# Altium integrated library Diodes - TVS.IntLib: 5379 symbols (part 96 of 122)
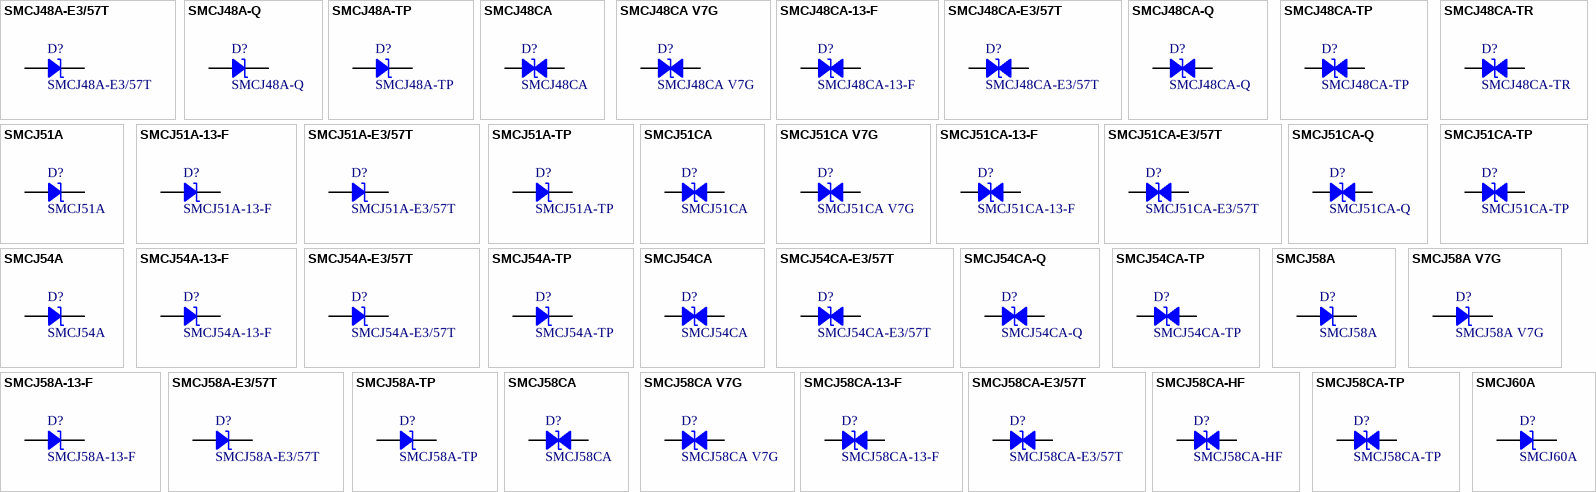
[diagram p229: symbols SMCJ48A-E3/57T to SMCJ60A]

## SMCJ51A-E3/57T
designator D?
TVS DIODE 51V 82.4V DO214AB; Manufacturer: Vishay Semiconductor Diodes Division; Current - Peak Pulse (10/1000µs): 18.2A; Power Line Protection: No; Power - Peak Pulse: 1500W (1.5kW); Type: Zener; Unidirectional Channels: 1; Voltage - Breakdown (Min): 56.7V; Part Number: SMCJ51A-E3/57T; Applications: General Purpose; ComponentLink1Description: Datasheet; ComponentLink1URL: http://www.vishay.com/docs/88394/smcj.pdf; ComponentLink2Description: DigiKey Link; ComponentLink2URL: http://digikey.com/product-detail/en/vishay-semiconductor-diodes-division/SMCJ51A-E3-57T/SMCJ51A-E3-57TGICT-ND/2413463; LastUpdated: 9/2/2020 1:20:08 AM; Lifecycle Status: Active; Minimum Order: 1; Mounting Type: Surface Mount; Operating Temperature: -55°C ~ 150°C (TJ); Package / Case: DO-214AB, SMC; Packaging: TapeAndReel; PartId: 7246; Part Status: Active; Price: 0.25; Series: TransZorb®; Supplier 1: DigiKey; Supplier Part Number 1: SMCJ51A-E3/57TGICT-ND; Supplier Device Package: DO-214AB (SMCJ); Voltage - Clamping (Max) @ Ipp: 82.4V; Voltage - Reverse Standoff (Typ): 51V
footprint DO214AB SMC
pins: 1, 2

## SMCJ51A-TP
designator D?
TVS DIODE 51V 82.4V DO214AB; Manufacturer: Micro Commercial Co; Current - Peak Pulse (10/1000µs): 18.2A; Power Line Protection: No; Power - Peak Pulse: 1500W (1.5kW); Type: Zener; Unidirectional Channels: 1; Voltage - Breakdown (Min): 56.7V; Part Number: SMCJ51A-TP; Applications: General Purpose; ComponentLink1Description: Datasheet; ComponentLink1URL: https://www.mccsemi.com/pdf/Products/SMCJ5.0~SMCJ440CA(DO-214AB).pdf; ComponentLink2Description: DigiKey Link; ComponentLink2URL: http://digikey.com/product-detail/en/micro-commercial-co/SMCJ51A-TP/SMCJ51A-TPMSCT-ND/1200779; LastUpdated: 9/2/2020 1:20:03 AM; Lifecycle Status: Active; Minimum Order: 1; Mounting Type: Surface Mount; Operating Temperature: -55°C ~ 175°C (TJ); Package / Case: DO-214AB, SMC; Packaging: TapeAndReel; PartId: 6715; Part Status: Active; Price: 0.20; Series: -; Supplier 1: DigiKey; Supplier Part Number 1: SMCJ51A-TPMSCT-ND; Supplier Device Package: DO-214AB (SMC); Voltage - Clamping (Max) @ Ipp: 82.4V; Voltage - Reverse Standoff (Typ): 51V
footprint DO214AB SMC
pins: 1, 2

## SMCJ51CA
designator D?
TVS DIODE 51V 82.4V SMC; Manufacturer: Bourns Inc.; Bidirectional Channels: 1; Current - Peak Pulse (10/1000µs): 18.2A; Power Line Protection: No; Power - Peak Pulse: 1500W (1.5kW); Type: Zener; Voltage - Breakdown (Min): 56.7V; Part Number: SMCJ51CA; Applications: General Purpose; ComponentLink1Description: Datasheet; ComponentLink1URL: https://www.bourns.com/docs/Product-Datasheets/SMCJ.pdf; ComponentLink2Description: DigiKey Link; ComponentLink2URL: http://digikey.com/product-detail/en/bourns-inc/SMCJ51CA/SMCJ51CABCT-ND/2254302; LastUpdated: 9/2/2020 1:28:03 AM; Lifecycle Status: Active; Minimum Order: 1; Mounting Type: Surface Mount; Operating Temperature: -55°C ~ 150°C (TJ); Package / Case: DO-214AB, SMC; Packaging: TapeAndReel; PartId: 8129; Part Status: Active; Price: 0.22; Series: SMCJ; Supplier 1: DigiKey; Supplier Part Number 1: SMCJ51CABCT-ND; Supplier Device Package: SMC (DO-214AB); Voltage - Clamping (Max) @ Ipp: 82.4V; Voltage - Reverse Standoff (Typ): 51V
footprint DO214AB SMC
pins: 1, 2

## SMCJ51CA V7G
designator D?
TVS DIODE 51V 82.4V DO214AB; Manufacturer: Taiwan Semiconductor Corporation; Bidirectional Channels: 1; Current - Peak Pulse (10/1000µs): 19A; Power Line Protection: No; Power - Peak Pulse: 1500W (1.5kW); Type: Zener; Voltage - Breakdown (Min): 56.7V; Part Number: SMCJ51CA V7G; Applications: Telecom; ComponentLink1Description: Datasheet; ComponentLink1URL: https://www.taiwansemi.com/products/datasheet/SMCJ5V0CA_F%20SERIES_A1806.pdf; ComponentLink2Description: DigiKey Link; ComponentLink2URL: http://digikey.com/product-detail/en/taiwan-semiconductor-corporation/SMCJ51CA-V7G/SMCJ51CAV7GCT-ND/7944467; LastUpdated: 9/2/2020 1:28:08 AM; Lifecycle Status: Active; Minimum Order: 1; Mounting Type: Surface Mount; Operating Temperature: -55°C ~ 150°C (TJ); Package / Case: DO-214AB, SMC; Packaging: TapeAndReel; PartId: 8689; Part Status: Active; Price: 0.39; Series: SMCJ; Supplier 1: DigiKey; Supplier Part Number 1: SMCJ51CAV7GCT-ND; Supplier Device Package: DO-214AB (SMC); Voltage - Clamping (Max) @ Ipp: 82.4V; Voltage - Reverse Standoff (Typ): 51V
footprint DO214AB SMC
pins: 1, 2

## SMCJ51CA-13-F
designator D?
TVS DIODE 51V 82.4V SMC; Manufacturer: Diodes Incorporated; Bidirectional Channels: 1; Current - Peak Pulse (10/1000µs): 18.2A; Power Line Protection: No; Power - Peak Pulse: 1500W (1.5kW); Type: Zener; Voltage - Breakdown (Min): 56.7V; Part Number: SMCJ51CA-13-F; Applications: General Purpose; ComponentLink1Description: Datasheet; ComponentLink1URL: https://www.diodes.com/assets/Datasheets/ds19003.pdf; ComponentLink2Description: DigiKey Link; ComponentLink2URL: http://digikey.com/product-detail/en/diodes-incorporated/SMCJ51CA-13-F/SMCJ51CA-FDICT-ND/816129; LastUpdated: 9/2/2020 1:28:09 AM; Lifecycle Status: Active; Minimum Order: 1; Mounting Type: Surface Mount; Operating Temperature: -55°C ~ 150°C (TJ); Package / Case: DO-214AB, SMC; Packaging: TapeAndReel; PartId: 8716; Part Status: Active; Price: 0.30; Series: -; Supplier 1: DigiKey; Supplier Part Number 1: SMCJ51CA-FDICT-ND; Supplier Device Package: SMC; Voltage - Clamping (Max) @ Ipp: 82.4V; Voltage - Reverse Standoff (Typ): 51V
footprint DO214AB SMC
pins: 1, 2

## SMCJ51CA-E3/57T
designator D?
TVS DIODE 51V 82.4V DO214AB; Manufacturer: Vishay Semiconductor Diodes Division; Bidirectional Channels: 1; Current - Peak Pulse (10/1000µs): 18.2A; Power Line Protection: No; Power - Peak Pulse: 1500W (1.5kW); Type: Zener; Voltage - Breakdown (Min): 56.7V; Part Number: SMCJ51CA-E3/57T; Applications: General Purpose; ComponentLink1Description: Datasheet; ComponentLink1URL: http://www.vishay.com/docs/88394/smcj.pdf; ComponentLink2Description: DigiKey Link; ComponentLink2URL: http://digikey.com/product-detail/en/vishay-semiconductor-diodes-division/SMCJ51CA-E3-57T/SMCJ51CA-E3-57TGICT-ND/2413434; LastUpdated: 9/2/2020 1:28:09 AM; Lifecycle Status: Active; Minimum Order: 1; Mounting Type: Surface Mount; Operating Temperature: -55°C ~ 150°C (TJ); Package / Case: DO-214AB, SMC; Packaging: TapeAndReel; PartId: 8757; Part Status: Active; Price: 0.30; Series: TransZorb®; Supplier 1: DigiKey; Supplier Part Number 1: SMCJ51CA-E3/57TGICT-ND; Supplier Device Package: DO-214AB (SMCJ); Voltage - Clamping (Max) @ Ipp: 82.4V; Voltage - Reverse Standoff (Typ): 51V
footprint DO214AB SMC
pins: 1, 2

## SMCJ51CA-Q
designator D?
TVS DIODE 51V 82.4V SMC; Manufacturer: Bourns Inc.; Bidirectional Channels: 1; Current - Peak Pulse (10/1000µs): 18.2A; Power Line Protection: No; Power - Peak Pulse: 1500W (1.5kW); Type: Zener; Voltage - Breakdown (Min): 56.7V; Part Number: SMCJ51CA-Q; Applications: Automotive; ComponentLink1Description: Datasheet; ComponentLink1URL: https://www.bourns.com/docs/Product-Datasheets/SMCJ-Q.pdf; ComponentLink2Description: DigiKey Link; ComponentLink2URL: http://digikey.com/product-detail/en/bourns-inc/SMCJ51CA-Q/SMCJ51CA-QCT-ND/10222739; LastUpdated: 9/2/2020 1:28:04 AM; Lifecycle Status: Active; Minimum Order: 1; Mounting Type: Surface Mount; Operating Temperature: -55°C ~ 150°C (TJ); Package / Case: DO-214AB, SMC; Packaging: TapeAndReel; PartId: 8217; Part Status: Active; Price: 0.29; Series: Automotive, AEC-Q101, SMCJ; Supplier 1: DigiKey; Supplier Part Number 1: SMCJ51CA-QCT-ND; Supplier Device Package: SMC (DO-214AB); Voltage - Clamping (Max) @ Ipp: 82.4V; Voltage - Reverse Standoff (Typ): 51V
footprint DO214AB SMC
pins: 1, 2

## SMCJ51CA-TP
designator D?
TVS DIODE 51V 82.4V DO214AB; Manufacturer: Micro Commercial Co; Bidirectional Channels: 1; Current - Peak Pulse (10/1000µs): 18.2A; Power Line Protection: No; Power - Peak Pulse: 1500W (1.5kW); Type: Zener; Voltage - Breakdown (Min): 56.7V; Part Number: SMCJ51CA-TP; Applications: General Purpose; ComponentLink1Description: Datasheet; ComponentLink1URL: https://www.mccsemi.com/pdf/Products/SMCJ5.0~SMCJ440CA(DO-214AB).pdf; ComponentLink2Description: DigiKey Link; ComponentLink2URL: http://digikey.com/product-detail/en/micro-commercial-co/SMCJ51CA-TP/SMCJ51CA-TPMSCT-ND/1200780; LastUpdated: 9/2/2020 1:28:02 AM; Lifecycle Status: Active; Minimum Order: 1; Mounting Type: Surface Mount; Operating Temperature: -55°C ~ 175°C (TJ); Package / Case: DO-214AB, SMC; Packaging: TapeAndReel; PartId: 7972; Part Status: Active; Price: 0.21; Series: -; Supplier 1: DigiKey; Supplier Part Number 1: SMCJ51CA-TPMSCT-ND; Supplier Device Package: DO-214AB (SMC); Voltage - Clamping (Max) @ Ipp: 82.4V; Voltage - Reverse Standoff (Typ): 51V
footprint DO214AB SMC
pins: 1, 2

## SMCJ54A
designator D?
TVS DIODE 54V 87.1V SMC; Manufacturer: Bourns Inc.; Current - Peak Pulse (10/1000µs): 17.3A; Power Line Protection: No; Power - Peak Pulse: 1500W (1.5kW); Type: Zener; Unidirectional Channels: 1; Voltage - Breakdown (Min): 60V; Part Number: SMCJ54A; Applications: General Purpose; ComponentLink1Description: Datasheet; ComponentLink1URL: https://www.bourns.com/docs/Product-Datasheets/SMCJ.pdf; ComponentLink2Description: DigiKey Link; ComponentLink2URL: http://digikey.com/product-detail/en/bourns-inc/SMCJ54A/SMCJ54ABCT-ND/2254312; LastUpdated: 9/2/2020 1:20:00 AM; Lifecycle Status: Active; Minimum Order: 1; Mounting Type: Surface Mount; Operating Temperature: -55°C ~ 150°C (TJ); Package / Case: DO-214AB, SMC; Packaging: TapeAndReel; PartId: 6422; Part Status: Active; Price: 0.20; Series: SMCJ; Supplier 1: DigiKey; Supplier Part Number 1: SMCJ54ABCT-ND; Supplier Device Package: SMC (DO-214AB); Voltage - Clamping (Max) @ Ipp: 87.1V; Voltage - Reverse Standoff (Typ): 54V
footprint DO214AB SMC
pins: 1, 2

## SMCJ54A-13-F
designator D?
TVS DIODE 54V 87.1V SMC; Manufacturer: Diodes Incorporated; Current - Peak Pulse (10/1000µs): 17.2A; Power Line Protection: No; Power - Peak Pulse: 1500W (1.5kW); Type: Zener; Unidirectional Channels: 1; Voltage - Breakdown (Min): 60V; Part Number: SMCJ54A-13-F; Applications: General Purpose; ComponentLink1Description: Datasheet; ComponentLink1URL: https://www.diodes.com/assets/Datasheets/ds19003.pdf; ComponentLink2Description: DigiKey Link; ComponentLink2URL: http://digikey.com/product-detail/en/diodes-incorporated/SMCJ54A-13-F/SMCJ54A-FDICT-ND/816130; LastUpdated: 9/2/2020 1:20:00 AM; Lifecycle Status: Active; Minimum Order: 1; Mounting Type: Surface Mount; Operating Temperature: -55°C ~ 150°C (TJ); Package / Case: DO-214AB, SMC; Packaging: TapeAndReel; PartId: 6374; Part Status: Active; Price: 0.27; Series: -; Supplier 1: DigiKey; Supplier Part Number 1: SMCJ54A-FDICT-ND; Supplier Device Package: SMC; Voltage - Clamping (Max) @ Ipp: 87.1V; Voltage - Reverse Standoff (Typ): 54V
footprint DO214AB SMC
pins: 1, 2

## SMCJ54A-E3/57T
designator D?
TVS DIODE 54V 87.1V DO214AB; Manufacturer: Vishay Semiconductor Diodes Division; Current - Peak Pulse (10/1000µs): 17.2A; Power Line Protection: No; Power - Peak Pulse: 1500W (1.5kW); Type: Zener; Unidirectional Channels: 1; Voltage - Breakdown (Min): 60V; Part Number: SMCJ54A-E3/57T; Applications: General Purpose; ComponentLink1Description: Datasheet; ComponentLink1URL: http://www.vishay.com/docs/88394/smcj.pdf; ComponentLink2Description: DigiKey Link; ComponentLink2URL: http://digikey.com/product-detail/en/vishay-semiconductor-diodes-division/SMCJ54A-E3-57T/SMCJ54A-E3-57TGICT-ND/2413403; LastUpdated: 9/2/2020 1:20:02 AM; Lifecycle Status: Active; Minimum Order: 1; Mounting Type: Surface Mount; Operating Temperature: -55°C ~ 150°C (TJ); Package / Case: DO-214AB, SMC; Packaging: TapeAndReel; PartId: 6559; Part Status: Active; Price: 0.25; Series: TransZorb®; Supplier 1: DigiKey; Supplier Part Number 1: SMCJ54A-E3/57TGICT-ND; Supplier Device Package: DO-214AB (SMCJ); Voltage - Clamping (Max) @ Ipp: 87.1V; Voltage - Reverse Standoff (Typ): 54V
footprint DO214AB SMC
pins: 1, 2

## SMCJ54A-TP
designator D?
TVS DIODE 54V 87.1V DO214AB; Manufacturer: Micro Commercial Co; Current - Peak Pulse (10/1000µs): 17.3A; Power Line Protection: No; Power - Peak Pulse: 1500W (1.5kW); Type: Zener; Unidirectional Channels: 1; Voltage - Breakdown (Min): 60V; Part Number: SMCJ54A-TP; Applications: General Purpose; ComponentLink1Description: Datasheet; ComponentLink1URL: https://www.mccsemi.com/pdf/Products/SMCJ5.0~SMCJ440CA(DO-214AB).pdf; ComponentLink2Description: DigiKey Link; ComponentLink2URL: http://digikey.com/product-detail/en/micro-commercial-co/SMCJ54A-TP/SMCJ54A-TPMSCT-ND/1200781; LastUpdated: 9/2/2020 1:19:59 AM; Lifecycle Status: Active; Minimum Order: 1; Mounting Type: Surface Mount; Operating Temperature: -55°C ~ 175°C (TJ); Package / Case: DO-214AB, SMC; Packaging: TapeAndReel; PartId: 6332; Part Status: Active; Price: 0.20; Series: -; Supplier 1: DigiKey; Supplier Part Number 1: SMCJ54A-TPMSCT-ND; Supplier Device Package: DO-214AB (SMC); Voltage - Clamping (Max) @ Ipp: 87.1V; Voltage - Reverse Standoff (Typ): 54V
footprint DO214AB SMC
pins: 1, 2

## SMCJ54CA
designator D?
TVS DIODE 54V 87.1V SMC; Manufacturer: Bourns Inc.; Bidirectional Channels: 1; Current - Peak Pulse (10/1000µs): 17.3A; Power Line Protection: No; Power - Peak Pulse: 1500W (1.5kW); Type: Zener; Voltage - Breakdown (Min): 60V; Part Number: SMCJ54CA; Applications: General Purpose; ComponentLink1Description: Datasheet; ComponentLink1URL: https://www.bourns.com/docs/Product-Datasheets/SMCJ.pdf; ComponentLink2Description: DigiKey Link; ComponentLink2URL: http://digikey.com/product-detail/en/bourns-inc/SMCJ54CA/SMCJ54CABCT-ND/2254314; LastUpdated: 9/2/2020 1:28:03 AM; Lifecycle Status: Active; Minimum Order: 1; Mounting Type: Surface Mount; Operating Temperature: -55°C ~ 150°C (TJ); Package / Case: DO-214AB, SMC; Packaging: TapeAndReel; PartId: 8053; Part Status: Active; Price: 0.22; Series: SMCJ; Supplier 1: DigiKey; Supplier Part Number 1: SMCJ54CABCT-ND; Supplier Device Package: SMC (DO-214AB); Voltage - Clamping (Max) @ Ipp: 87.1V; Voltage - Reverse Standoff (Typ): 54V
footprint DO214AB SMC
pins: 1, 2

## SMCJ54CA-E3/57T
designator D?
TVS DIODE 54V 87.1V DO214AB; Manufacturer: Vishay Semiconductor Diodes Division; Bidirectional Channels: 1; Current - Peak Pulse (10/1000µs): 17.2A; Power Line Protection: No; Power - Peak Pulse: 1500W (1.5kW); Type: Zener; Voltage - Breakdown (Min): 60V; Part Number: SMCJ54CA-E3/57T; Applications: General Purpose; ComponentLink1Description: Datasheet; ComponentLink1URL: http://www.vishay.com/docs/88394/smcj.pdf; ComponentLink2Description: DigiKey Link; ComponentLink2URL: http://digikey.com/product-detail/en/vishay-semiconductor-diodes-division/SMCJ54CA-E3-57T/SMCJ54CA-E3-57TGICT-ND/3306591; LastUpdated: 9/2/2020 1:28:01 AM; Lifecycle Status: Active; Minimum Order: 1; Mounting Type: Surface Mount; Operating Temperature: -55°C ~ 150°C (TJ); Package / Case: DO-214AB, SMC; Packaging: TapeAndReel; PartId: 7923; Part Status: Active; Price: 0.30; Series: TransZorb®; Supplier 1: DigiKey; Supplier Part Number 1: SMCJ54CA-E3/57TGICT-ND; Supplier Device Package: DO-214AB (SMCJ); Voltage - Clamping (Max) @ Ipp: 87.1V; Voltage - Reverse Standoff (Typ): 54V
footprint DO214AB SMC
pins: 1, 2

## SMCJ54CA-Q
designator D?
TVS DIODE 54V 87.1V SMC; Manufacturer: Bourns Inc.; Bidirectional Channels: 1; Current - Peak Pulse (10/1000µs): 17.3A; Power Line Protection: No; Power - Peak Pulse: 1500W (1.5kW); Type: Zener; Voltage - Breakdown (Min): 60V; Part Number: SMCJ54CA-Q; Applications: Automotive; ComponentLink1Description: Datasheet; ComponentLink1URL: https://www.bourns.com/docs/Product-Datasheets/SMCJ-Q.pdf; ComponentLink2Description: DigiKey Link; ComponentLink2URL: http://digikey.com/product-detail/en/bourns-inc/SMCJ54CA-Q/SMCJ54CA-QCT-ND/10222740; LastUpdated: 9/2/2020 1:28:08 AM; Lifecycle Status: Active; Minimum Order: 1; Mounting Type: Surface Mount; Operating Temperature: -55°C ~ 150°C (TJ); Package / Case: DO-214AB, SMC; Packaging: TapeAndReel; PartId: 8629; Part Status: Active; Price: 0.29; Series: Automotive, AEC-Q101, SMCJ; Supplier 1: DigiKey; Supplier Part Number 1: SMCJ54CA-QCT-ND; Supplier Device Package: SMC (DO-214AB); Voltage - Clamping (Max) @ Ipp: 87.1V; Voltage - Reverse Standoff (Typ): 54V
footprint DO214AB SMC
pins: 1, 2

## SMCJ54CA-TP
designator D?
TVS DIODE 54V 87.1V DO214AB; Manufacturer: Micro Commercial Co; Bidirectional Channels: 1; Current - Peak Pulse (10/1000µs): 17.3A; Power Line Protection: No; Power - Peak Pulse: 1500W (1.5kW); Type: Zener; Voltage - Breakdown (Min): 60V; Part Number: SMCJ54CA-TP; Applications: General Purpose; ComponentLink1Description: Datasheet; ComponentLink1URL: https://www.mccsemi.com/pdf/Products/SMCJ5.0~SMCJ440CA(DO-214AB).pdf; ComponentLink2Description: DigiKey Link; ComponentLink2URL: http://digikey.com/product-detail/en/micro-commercial-co/SMCJ54CA-TP/SMCJ54CA-TPMSCT-ND/1200782; LastUpdated: 9/2/2020 1:28:01 AM; Lifecycle Status: Active; Minimum Order: 1; Mounting Type: Surface Mount; Operating Temperature: -55°C ~ 175°C (TJ); Package / Case: DO-214AB, SMC; Packaging: TapeAndReel; PartId: 7929; Part Status: Active; Price: 0.21; Series: -; Supplier 1: DigiKey; Supplier Part Number 1: SMCJ54CA-TPMSCT-ND; Supplier Device Package: DO-214AB (SMC); Voltage - Clamping (Max) @ Ipp: 87.1V; Voltage - Reverse Standoff (Typ): 54V
footprint DO214AB SMC
pins: 1, 2

## SMCJ58A
designator D?
TVS DIODE 58V 93.6V SMC; Manufacturer: Taiwan Semiconductor Corporation; Current - Peak Pulse (10/1000µs): 16A; Power Line Protection: No; Power - Peak Pulse: 1500W (1.5kW); Type: Zener; Unidirectional Channels: 1; Voltage - Breakdown (Min): 64.4V; Part Number: SMCJ58A; Applications: General Purpose; ComponentLink1Description: Datasheet; ComponentLink1URL: https://www.taiwansemi.com/products/datasheet/SMCJ%20SERIES_Q1812.pdf; ComponentLink2Description: DigiKey Link; ComponentLink2URL: http://digikey.com/product-detail/en/taiwan-semiconductor-corporation/SMCJ58A/SMCJ58AFSCT-ND/3042743; LastUpdated: 9/2/2020 1:19:59 AM; Lifecycle Status: Active; Minimum Order: 1; Mounting Type: Surface Mount; Package / Case: DO-214AB, SMC; Packaging: TapeAndReel; PartId: 6285; Part Status: Active; Price: 0.21; Series: -; Supplier 1: DigiKey; Supplier Part Number 1: SMCJ58AFSCT-ND; Supplier Device Package: SMC (DO-214AB); Voltage - Clamping (Max) @ Ipp: 93.6V; Voltage - Reverse Standoff (Typ): 58V
footprint DO214AB SMC
pins: 1, 2

## SMCJ58A V7G
designator D?
TVS DIODE 58V 93.6V DO214AB; Manufacturer: Taiwan Semiconductor Corporation; Current - Peak Pulse (10/1000µs): 16A; Power Line Protection: No; Power - Peak Pulse: 1500W (1.5kW); Type: Zener; Unidirectional Channels: 1; Voltage - Breakdown (Min): 64.4V; Part Number: SMCJ58A V7G; Applications: Telecom; ComponentLink1Description: Datasheet; ComponentLink1URL: https://www.taiwansemi.com/products/datasheet/SMCJ%20SERIES_Q1812.pdf; ComponentLink2Description: DigiKey Link; ComponentLink2URL: http://digikey.com/product-detail/en/taiwan-semiconductor-corporation/SMCJ58A-V7G/SMCJ58AV7GCT-ND/7944468; LastUpdated: 9/2/2020 1:20:08 AM; Lifecycle Status: Active; Minimum Order: 1; Mounting Type: Surface Mount; Operating Temperature: -55°C ~ 150°C (TJ); Package / Case: DO-214AB, SMC; Packaging: TapeAndReel; PartId: 7212; Part Status: Active; Price: 0.36; Series: SMCJ; Supplier 1: DigiKey; Supplier Part Number 1: SMCJ58AV7GCT-ND; Supplier Device Package: DO-214AB (SMC); Voltage - Clamping (Max) @ Ipp: 93.6V; Voltage - Reverse Standoff (Typ): 58V
footprint DO214AB SMC
pins: 1, 2

## SMCJ58A-13-F
designator D?
TVS DIODE 58V 93.6V SMC; Manufacturer: Diodes Incorporated; Current - Peak Pulse (10/1000µs): 16A; Power Line Protection: No; Power - Peak Pulse: 1500W (1.5kW); Type: Zener; Unidirectional Channels: 1; Voltage - Breakdown (Min): 64.4V; Part Number: SMCJ58A-13-F; Applications: General Purpose; ComponentLink1Description: Datasheet; ComponentLink1URL: https://www.diodes.com/assets/Datasheets/ds19003.pdf; ComponentLink2Description: DigiKey Link; ComponentLink2URL: http://digikey.com/product-detail/en/diodes-incorporated/SMCJ58A-13-F/SMCJ58A-FDICT-ND/816131; LastUpdated: 9/2/2020 1:20:05 AM; Lifecycle Status: Active; Minimum Order: 1; Mounting Type: Surface Mount; Operating Temperature: -55°C ~ 150°C (TJ); Package / Case: DO-214AB, SMC; Packaging: TapeAndReel; PartId: 6964; Part Status: Active; Price: 0.55; Series: -; Supplier 1: DigiKey; Supplier Part Number 1: SMCJ58A-FDICT-ND; Supplier Device Package: SMC; Voltage - Clamping (Max) @ Ipp: 93.6V; Voltage - Reverse Standoff (Typ): 58V
footprint DO214AB SMC
pins: 1, 2

## SMCJ58A-E3/57T
designator D?
TVS DIODE 58V 93.6V DO214AB; Manufacturer: Vishay Semiconductor Diodes Division; Current - Peak Pulse (10/1000µs): 16A; Power Line Protection: No; Power - Peak Pulse: 1500W (1.5kW); Type: Zener; Unidirectional Channels: 1; Voltage - Breakdown (Min): 64.4V; Part Number: SMCJ58A-E3/57T; Applications: General Purpose; ComponentLink1Description: Datasheet; ComponentLink1URL: http://www.vishay.com/docs/88394/smcj.pdf; ComponentLink2Description: DigiKey Link; ComponentLink2URL: http://digikey.com/product-detail/en/vishay-semiconductor-diodes-division/SMCJ58A-E3-57T/SMCJ58A-E3-57TGICT-ND/3306592; LastUpdated: 9/2/2020 1:20:08 AM; Lifecycle Status: Active; Minimum Order: 1; Mounting Type: Surface Mount; Operating Temperature: -55°C ~ 150°C (TJ); Package / Case: DO-214AB, SMC; Packaging: TapeAndReel; PartId: 7244; Part Status: Active; Price: 0.25; Series: TransZorb®; Supplier 1: DigiKey; Supplier Part Number 1: SMCJ58A-E3/57TGICT-ND; Supplier Device Package: DO-214AB (SMCJ); Voltage - Clamping (Max) @ Ipp: 93.6V; Voltage - Reverse Standoff (Typ): 58V
footprint DO214AB SMC
pins: 1, 2

## SMCJ58A-TP
designator D?
TVS DIODE 58V 93.6V DO214AB; Manufacturer: Micro Commercial Co; Current - Peak Pulse (10/1000µs): 16.1A; Power Line Protection: No; Power - Peak Pulse: 1500W (1.5kW); Type: Zener; Unidirectional Channels: 1; Voltage - Breakdown (Min): 64.4V; Part Number: SMCJ58A-TP; Applications: General Purpose; ComponentLink1Description: Datasheet; ComponentLink1URL: https://www.mccsemi.com/pdf/Products/SMCJ5.0~SMCJ440CA(DO-214AB).pdf; ComponentLink2Description: DigiKey Link; ComponentLink2URL: http://digikey.com/product-detail/en/micro-commercial-co/SMCJ58A-TP/SMCJ58A-TPMSCT-ND/1200783; LastUpdated: 9/2/2020 1:19:59 AM; Lifecycle Status: Active; Minimum Order: 1; Mounting Type: Surface Mount; Operating Temperature: -55°C ~ 175°C (TJ); Package / Case: DO-214AB, SMC; Packaging: TapeAndReel; PartId: 6314; Part Status: Active; Price: 0.20; Series: -; Supplier 1: DigiKey; Supplier Part Number 1: SMCJ58A-TPMSCT-ND; Supplier Device Package: DO-214AB (SMC); Voltage - Clamping (Max) @ Ipp: 93.6V; Voltage - Reverse Standoff (Typ): 58V
footprint DO214AB SMC
pins: 1, 2

## SMCJ58CA
designator D?
TVS DIODE 58V 93.6V SMC; Manufacturer: Taiwan Semiconductor Corporation; Bidirectional Channels: 1; Current - Peak Pulse (10/1000µs): 16A; Power Line Protection: No; Power - Peak Pulse: 1500W (1.5kW); Type: Zener; Voltage - Breakdown (Min): 64.4V; Part Number: SMCJ58CA; Applications: General Purpose; ComponentLink1Description: Datasheet; ComponentLink1URL: https://www.taiwansemi.com/products/datasheet/SMCJ5V0CA_F%20SERIES_A1806.pdf; ComponentLink2Description: DigiKey Link; ComponentLink2URL: http://digikey.com/product-detail/en/taiwan-semiconductor-corporation/SMCJ58CA/SMCJ58CAFSCT-ND/3042744; LastUpdated: 9/2/2020 1:28:03 AM; Lifecycle Status: Active; Minimum Order: 1; Mounting Type: Surface Mount; Package / Case: DO-214AB, SMC; Packaging: TapeAndReel; PartId: 8120; Part Status: Active; Price: 0.28; Series: -; Supplier 1: DigiKey; Supplier Part Number 1: SMCJ58CAFSCT-ND; Supplier Device Package: SMC (DO-214AB); Voltage - Clamping (Max) @ Ipp: 93.6V; Voltage - Reverse Standoff (Typ): 58V
footprint DO214AB SMC
pins: 1, 2

## SMCJ58CA V7G
designator D?
TVS DIODE 58V 93.6V DO214AB; Manufacturer: Taiwan Semiconductor Corporation; Bidirectional Channels: 1; Current - Peak Pulse (10/1000µs): 16A; Power Line Protection: No; Power - Peak Pulse: 1500W (1.5kW); Type: Zener; Voltage - Breakdown (Min): 64.4V; Part Number: SMCJ58CA V7G; Applications: Telecom; ComponentLink1Description: Datasheet; ComponentLink1URL: https://www.taiwansemi.com/products/datasheet/SMCJ5V0CA_F%20SERIES_A1806.pdf; ComponentLink2Description: DigiKey Link; ComponentLink2URL: http://digikey.com/product-detail/en/taiwan-semiconductor-corporation/SMCJ58CA-V7G/SMCJ58CAV7GCT-ND/7944469; LastUpdated: 9/2/2020 1:28:05 AM; Lifecycle Status: Active; Minimum Order: 1; Mounting Type: Surface Mount; Operating Temperature: -55°C ~ 150°C (TJ); Package / Case: DO-214AB, SMC; Packaging: TapeAndReel; PartId: 8272; Part Status: Active; Price: 0.46; Series: SMCJ; Supplier 1: DigiKey; Supplier Part Number 1: SMCJ58CAV7GCT-ND; Supplier Device Package: DO-214AB (SMC); Voltage - Clamping (Max) @ Ipp: 93.6V; Voltage - Reverse Standoff (Typ): 58V
footprint DO214AB SMC
pins: 1, 2

## SMCJ58CA-13-F
designator D?
TVS DIODE 58VWM 93.6VC SMC; Manufacturer: Diodes Incorporated; Bidirectional Channels: 1; Current - Peak Pulse (10/1000µs): 16A; Power Line Protection: No; Power - Peak Pulse: 1500W (1.5kW); Type: Zener; Voltage - Breakdown (Min): 64.4V; Voltage - Clamping (Max) @ Ipp: 93.6V; Voltage - Reverse Standoff (Typ): 58V; Part Number: SMCJ58CA-13-F; Applications: General Purpose; ComponentLink1Description: Datasheet; ComponentLink1URL: https://www.diodes.com/assets/Datasheets/ds19003.pdf; ComponentLink2Description: DigiKey Link; ComponentLink2URL: http://digikey.com/product-detail/en/diodes-incorporated/SMCJ58CA-13-F/SMCJ58CA-FDICT-ND/816132; LastUpdated: 9/2/2020 1:28:07 AM; Lifecycle Status: Active; Minimum Order: 1; Mounting Type: Surface Mount; Operating Temperature: -55°C ~ 150°C (TJ); Package / Case: DO-214AB, SMC; Packaging: TapeAndReel; PartId: 8534; Part Status: Active; Price: 0.61; Series: -; Supplier 1: DigiKey; Supplier Part Number 1: SMCJ58CA-FDICT-ND; Supplier Device Package: SMC
footprint DO214AB SMC
pins: 1, 2

## SMCJ58CA-E3/57T
designator D?
TVS DIODE 58V 93.6V DO214AB; Manufacturer: Vishay Semiconductor Diodes Division; Bidirectional Channels: 1; Current - Peak Pulse (10/1000µs): 16A; Power Line Protection: No; Power - Peak Pulse: 1500W (1.5kW); Type: Zener; Voltage - Breakdown (Min): 64.4V; Part Number: SMCJ58CA-E3/57T; Applications: General Purpose; ComponentLink1Description: Datasheet; ComponentLink1URL: http://www.vishay.com/docs/88394/smcj.pdf; ComponentLink2Description: DigiKey Link; ComponentLink2URL: http://digikey.com/product-detail/en/vishay-semiconductor-diodes-division/SMCJ58CA-E3-57T/SMCJ58CA-E3-57TGICT-ND/2413435; LastUpdated: 9/2/2020 1:28:05 AM; Lifecycle Status: Active; Minimum Order: 1; Mounting Type: Surface Mount; Operating Temperature: -55°C ~ 150°C (TJ); Package / Case: DO-214AB, SMC; Packaging: TapeAndReel; PartId: 8313; Part Status: Active; Price: 0.30; Series: TransZorb®; Supplier 1: DigiKey; Supplier Part Number 1: SMCJ58CA-E3/57TGICT-ND; Supplier Device Package: DO-214AB (SMCJ); Voltage - Clamping (Max) @ Ipp: 93.6V; Voltage - Reverse Standoff (Typ): 58V
footprint DO214AB SMC
pins: 1, 2

## SMCJ58CA-HF
designator D?
DIODE TVS 58V 1500W SMC BI-DIR; Manufacturer: Comchip Technology; Bidirectional Channels: 1; Current - Peak Pulse (10/1000µs): 16A; Power Line Protection: No; Power - Peak Pulse: 1500W (1.5kW); Type: Zener; Voltage - Breakdown (Min): 64.4V; Voltage - Clamping (Max) @ Ipp: 93.6V; Part Number: SMCJ58CA-HF; Applications: General Purpose; ComponentLink1Description: Datasheet; ComponentLink1URL: http://www.comchiptech.com/admin/files/product/20190409165119.PDF; ComponentLink2Description: DigiKey Link; ComponentLink2URL: http://digikey.com/product-detail/en/comchip-technology/SMCJ58CA-HF/641-2114-1-ND/10223585; LastUpdated: 9/2/2020 1:28:03 AM; Lifecycle Status: Active; Minimum Order: 1; Mounting Type: Surface Mount; Operating Temperature: -55°C ~ 150°C (TJ); Package / Case: DO-214AB, SMC; Packaging: TapeAndReel; PartId: 8101; Part Status: Active; Price: 0.20; Series: -; Supplier 1: DigiKey; Supplier Part Number 1: 641-2114-1-ND; Supplier Device Package: DO-214AB (SMC); Voltage - Reverse Standoff (Typ): 58V
footprint DO214AB SMC
pins: 1, 2

## SMCJ58CA-TP
designator D?
TVS DIODE 58V 93.6V DO214AB; Manufacturer: Micro Commercial Co; Bidirectional Channels: 1; Current - Peak Pulse (10/1000µs): 16.1A; Power Line Protection: No; Power - Peak Pulse: 1500W (1.5kW); Type: Zener; Voltage - Breakdown (Min): 64.4V; Part Number: SMCJ58CA-TP; Applications: General Purpose; ComponentLink1Description: Datasheet; ComponentLink1URL: https://www.mccsemi.com/pdf/Products/SMCJ5.0~SMCJ440CA(DO-214AB).pdf; ComponentLink2Description: DigiKey Link; ComponentLink2URL: http://digikey.com/product-detail/en/micro-commercial-co/SMCJ58CA-TP/SMCJ58CA-TPMSCT-ND/1200784; LastUpdated: 9/2/2020 1:28:01 AM; Lifecycle Status: Active; Minimum Order: 1; Mounting Type: Surface Mount; Operating Temperature: -55°C ~ 175°C (TJ); Package / Case: DO-214AB, SMC; Packaging: TapeAndReel; PartId: 7934; Part Status: Active; Price: 0.21; Series: -; Supplier 1: DigiKey; Supplier Part Number 1: SMCJ58CA-TPMSCT-ND; Supplier Device Package: DO-214AB (SMC); Voltage - Clamping (Max) @ Ipp: 93.6V; Voltage - Reverse Standoff (Typ): 58V
footprint DO214AB SMC
pins: 1, 2

## SMCJ60A
designator D?
TVS DIODE 60V 96.8V DO214AB; Manufacturer: Littelfuse Inc.; Current - Peak Pulse (10/1000µs): 15.5A; Power Line Protection: No; Power - Peak Pulse: 1500W (1.5kW); Type: Zener; Unidirectional Channels: 1; Voltage - Breakdown (Min): 66.7V; Part Number: SMCJ60A; Applications: General Purpose; ComponentLink1Description: Datasheet; ComponentLink1URL: https://www.littelfuse.com/products/tvs-diodes/surface-mount/~/media/electronics/datasheets/tvs_diodes/littelfuse_tvs_diode_smcj_datasheet.pdf.pdf; ComponentLink2Description: DigiKey Link; ComponentLink2URL: http://digikey.com/product-detail/en/littelfuse-inc/SMCJ60A/SMCJ60ALFCT-ND/762630; LastUpdated: 9/2/2020 1:20:03 AM; Lifecycle Status: Active; Minimum Order: 1; Mounting Type: Surface Mount; Operating Temperature: -55°C ~ 150°C (TJ); Package / Case: DO-214AB, SMC; Packaging: TapeAndReel; PartId: 6778; Part Status: Active; Price: 0.21; Series: SMCJ; Supplier 1: DigiKey; Supplier Part Number 1: SMCJ60ALFCT-ND; Supplier Device Package: DO-214AB (SMCJ); Voltage - Clamping (Max) @ Ipp: 96.8V; Voltage - Reverse Standoff (Typ): 60V
footprint DO214AB SMC
pins: 1, 2

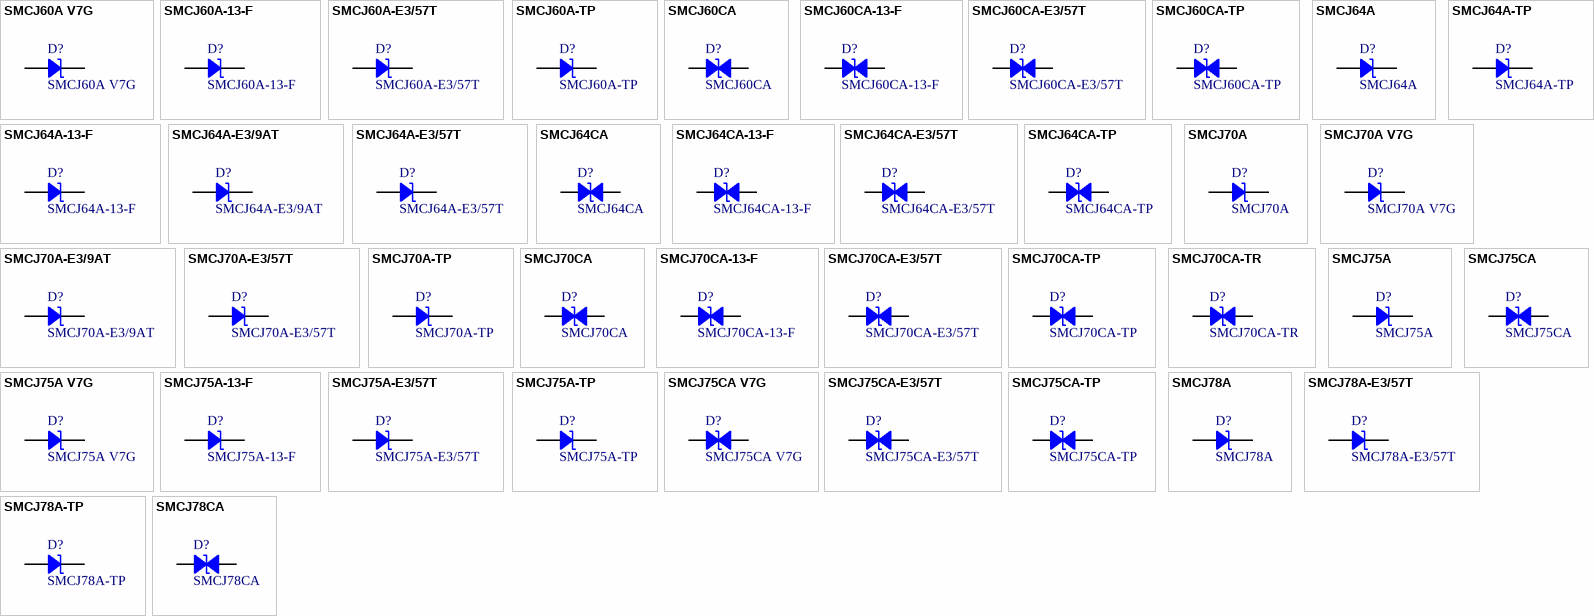
[diagram p106: symbols SMCJ60A V7G to SMCJ78CA]

## SMCJ60A V7G
designator D?
TVS DIODE 60V 96.8V DO214AB; Manufacturer: Taiwan Semiconductor Corporation; Current - Peak Pulse (10/1000µs): 16A; Power Line Protection: No; Power - Peak Pulse: 1500W (1.5kW); Type: Zener; Unidirectional Channels: 1; Voltage - Breakdown (Min): 66.7V; Part Number: SMCJ60A V7G; Applications: Telecom; ComponentLink1Description: Datasheet; ComponentLink1URL: https://www.taiwansemi.com/products/datasheet/SMCJ%20SERIES_Q1812.pdf; ComponentLink2Description: DigiKey Link; ComponentLink2URL: http://digikey.com/product-detail/en/taiwan-semiconductor-corporation/SMCJ60A-V7G/SMCJ60AV7GCT-ND/7944470; LastUpdated: 9/2/2020 1:20:00 AM; Lifecycle Status: Active; Minimum Order: 1; Mounting Type: Surface Mount; Operating Temperature: -55°C ~ 150°C (TJ); Package / Case: DO-214AB, SMC; Packaging: TapeAndReel; PartId: 6382; Part Status: Active; Price: 0.32; Series: SMCJ; Supplier 1: DigiKey; Supplier Part Number 1: SMCJ60AV7GCT-ND; Supplier Device Package: DO-214AB (SMC); Voltage - Clamping (Max) @ Ipp: 96.8V; Voltage - Reverse Standoff (Typ): 60V
footprint DO214AB SMC
pins: 1, 2

## SMCJ60A-13-F
designator D?
TVS DIODE 60V 96.8V SMC; Manufacturer: Diodes Incorporated; Current - Peak Pulse (10/1000µs): 15.5A; Power Line Protection: No; Power - Peak Pulse: 1500W (1.5kW); Type: Zener; Unidirectional Channels: 1; Voltage - Breakdown (Min): 66.7V; Part Number: SMCJ60A-13-F; Applications: General Purpose; ComponentLink1Description: Datasheet; ComponentLink1URL: https://www.diodes.com/assets/Datasheets/ds19003.pdf; ComponentLink2Description: DigiKey Link; ComponentLink2URL: http://digikey.com/product-detail/en/diodes-incorporated/SMCJ60A-13-F/SMCJ60A-FDICT-ND/816135; LastUpdated: 9/2/2020 1:20:00 AM; Lifecycle Status: Active; Minimum Order: 1; Mounting Type: Surface Mount; Operating Temperature: -55°C ~ 150°C (TJ); Package / Case: DO-214AB, SMC; Packaging: TapeAndReel; PartId: 6377; Part Status: Active; Price: 0.27; Series: -; Supplier 1: DigiKey; Supplier Part Number 1: SMCJ60A-FDICT-ND; Supplier Device Package: SMC; Voltage - Clamping (Max) @ Ipp: 96.8V; Voltage - Reverse Standoff (Typ): 60V
footprint DO214AB SMC
pins: 1, 2

## SMCJ60A-E3/57T
designator D?
TVS DIODE 60V 96.8V DO214AB; Manufacturer: Vishay Semiconductor Diodes Division; Current - Peak Pulse (10/1000µs): 15.5A; Power Line Protection: No; Power - Peak Pulse: 1500W (1.5kW); Type: Zener; Unidirectional Channels: 1; Voltage - Breakdown (Min): 66.7V; Part Number: SMCJ60A-E3/57T; Applications: General Purpose; ComponentLink1Description: Datasheet; ComponentLink1URL: http://www.vishay.com/docs/88394/smcj.pdf; ComponentLink2Description: DigiKey Link; ComponentLink2URL: http://digikey.com/product-detail/en/vishay-semiconductor-diodes-division/SMCJ60A-E3-57T/SMCJ60A-E3-57TGICT-ND/2413436; LastUpdated: 9/2/2020 1:20:02 AM; Lifecycle Status: Active; Minimum Order: 1; Mounting Type: Surface Mount; Operating Temperature: -55°C ~ 150°C (TJ); Package / Case: DO-214AB, SMC; Packaging: TapeAndReel; PartId: 6579; Part Status: Active; Price: 0.25; Series: TransZorb®; Supplier 1: DigiKey; Supplier Part Number 1: SMCJ60A-E3/57TGICT-ND; Supplier Device Package: DO-214AB (SMCJ); Voltage - Clamping (Max) @ Ipp: 96.8V; Voltage - Reverse Standoff (Typ): 60V
footprint DO214AB SMC
pins: 1, 2

## SMCJ60A-TP
designator D?
TVS DIODE 60V 96.8V DO214AB; Manufacturer: Micro Commercial Co; Current - Peak Pulse (10/1000µs): 15.5A; Power Line Protection: No; Power - Peak Pulse: 1500W (1.5kW); Type: Zener; Unidirectional Channels: 1; Voltage - Breakdown (Min): 66.7V; Part Number: SMCJ60A-TP; Applications: General Purpose; ComponentLink1Description: Datasheet; ComponentLink1URL: https://www.mccsemi.com/pdf/Products/SMCJ5.0~SMCJ440CA(DO-214AB).pdf; ComponentLink2Description: DigiKey Link; ComponentLink2URL: http://digikey.com/product-detail/en/micro-commercial-co/SMCJ60A-TP/SMCJ60A-TPMSCT-ND/1200785; LastUpdated: 9/2/2020 1:20:00 AM; Lifecycle Status: Active; Minimum Order: 1; Mounting Type: Surface Mount; Operating Temperature: -55°C ~ 175°C (TJ); Package / Case: DO-214AB, SMC; Packaging: TapeAndReel; PartId: 6423; Part Status: Active; Price: 0.20; Series: -; Supplier 1: DigiKey; Supplier Part Number 1: SMCJ60A-TPMSCT-ND; Supplier Device Package: DO-214AB (SMC); Voltage - Clamping (Max) @ Ipp: 96.8V; Voltage - Reverse Standoff (Typ): 60V
footprint DO214AB SMC
pins: 1, 2

## SMCJ60CA
designator D?
TVS DIODE 60V 96.8V DO214AB; Manufacturer: Littelfuse Inc.; Bidirectional Channels: 1; Current - Peak Pulse (10/1000µs): 15.5A; Power Line Protection: No; Power - Peak Pulse: 1500W (1.5kW); Type: Zener; Voltage - Breakdown (Min): 66.7V; Part Number: SMCJ60CA; Applications: General Purpose; ComponentLink1Description: Datasheet; ComponentLink1URL: https://www.littelfuse.com/products/tvs-diodes/surface-mount/~/media/electronics/datasheets/tvs_diodes/littelfuse_tvs_diode_smcj_datasheet.pdf.pdf; ComponentLink2Description: DigiKey Link; ComponentLink2URL: http://digikey.com/product-detail/en/littelfuse-inc/SMCJ60CA/SMCJ60CALFCT-ND/762631; LastUpdated: 9/2/2020 1:28:04 AM; Lifecycle Status: Active; Minimum Order: 1; Mounting Type: Surface Mount; Operating Temperature: -55°C ~ 150°C (TJ); Package / Case: DO-214AB, SMC; Packaging: TapeAndReel; PartId: 8171; Part Status: Active; Price: 0.23; Series: SMCJ; Supplier 1: DigiKey; Supplier Part Number 1: SMCJ60CALFCT-ND; Supplier Device Package: DO-214AB (SMCJ); Voltage - Clamping (Max) @ Ipp: 96.8V; Voltage - Reverse Standoff (Typ): 60V
footprint DO214AB SMC
pins: 1, 2

## SMCJ60CA-13-F
designator D?
TVS DIODE 60V 96.8V SMC; Manufacturer: Diodes Incorporated; Bidirectional Channels: 1; Current - Peak Pulse (10/1000µs): 15.5A; Power Line Protection: No; Power - Peak Pulse: 1500W (1.5kW); Type: Zener; Voltage - Breakdown (Min): 66.7V; Part Number: SMCJ60CA-13-F; Applications: General Purpose; ComponentLink1Description: Datasheet; ComponentLink1URL: https://www.diodes.com/assets/Datasheets/ds19003.pdf; ComponentLink2Description: DigiKey Link; ComponentLink2URL: http://digikey.com/product-detail/en/diodes-incorporated/SMCJ60CA-13-F/SMCJ60CA-FDICT-ND/816136; LastUpdated: 9/2/2020 1:28:02 AM; Lifecycle Status: Active; Minimum Order: 1; Mounting Type: Surface Mount; Operating Temperature: -55°C ~ 150°C (TJ); Package / Case: DO-214AB, SMC; Packaging: TapeAndReel; PartId: 8012; Part Status: Active; Price: 0.30; Series: -; Supplier 1: DigiKey; Supplier Part Number 1: SMCJ60CA-FDICT-ND; Supplier Device Package: SMC; Voltage - Clamping (Max) @ Ipp: 96.8V; Voltage - Reverse Standoff (Typ): 60V
footprint DO214AB SMC
pins: 1, 2

## SMCJ60CA-E3/57T
designator D?
TVS DIODE 60V 96.8V DO214AB; Manufacturer: Vishay Semiconductor Diodes Division; Bidirectional Channels: 1; Current - Peak Pulse (10/1000µs): 15.5A; Power Line Protection: No; Power - Peak Pulse: 1500W (1.5kW); Type: Zener; Voltage - Breakdown (Min): 66.7V; Part Number: SMCJ60CA-E3/57T; Applications: General Purpose; ComponentLink1Description: Datasheet; ComponentLink1URL: http://www.vishay.com/docs/88394/smcj.pdf; ComponentLink2Description: DigiKey Link; ComponentLink2URL: http://digikey.com/product-detail/en/vishay-semiconductor-diodes-division/SMCJ60CA-E3-57T/SMCJ60CA-E3-57TGICT-ND/3306593; LastUpdated: 9/2/2020 1:28:08 AM; Lifecycle Status: Active; Minimum Order: 1; Mounting Type: Surface Mount; Operating Temperature: -55°C ~ 150°C (TJ); Package / Case: DO-214AB, SMC; Packaging: TapeAndReel; PartId: 8681; Part Status: Active; Price: 0.30; Series: TransZorb®; Supplier 1: DigiKey; Supplier Part Number 1: SMCJ60CA-E3/57TGICT-ND; Supplier Device Package: DO-214AB (SMCJ); Voltage - Clamping (Max) @ Ipp: 96.8V; Voltage - Reverse Standoff (Typ): 60V
footprint DO214AB SMC
pins: 1, 2

## SMCJ60CA-TP
designator D?
TVS DIODE 60V 96.8V DO214AB; Manufacturer: Micro Commercial Co; Bidirectional Channels: 1; Current - Peak Pulse (10/1000µs): 15.5A; Power Line Protection: No; Power - Peak Pulse: 1500W (1.5kW); Type: Zener; Voltage - Breakdown (Min): 66.7V; Part Number: SMCJ60CA-TP; Applications: General Purpose; ComponentLink1Description: Datasheet; ComponentLink1URL: https://www.mccsemi.com/pdf/Products/SMCJ5.0~SMCJ440CA(DO-214AB).pdf; ComponentLink2Description: DigiKey Link; ComponentLink2URL: http://digikey.com/product-detail/en/micro-commercial-co/SMCJ60CA-TP/SMCJ60CA-TPMSCT-ND/1200786; LastUpdated: 9/2/2020 1:28:02 AM; Lifecycle Status: Active; Minimum Order: 1; Mounting Type: Surface Mount; Operating Temperature: -55°C ~ 175°C (TJ); Package / Case: DO-214AB, SMC; Packaging: TapeAndReel; PartId: 7982; Part Status: Active; Price: 0.21; Series: -; Supplier 1: DigiKey; Supplier Part Number 1: SMCJ60CA-TPMSCT-ND; Supplier Device Package: DO-214AB (SMC); Voltage - Clamping (Max) @ Ipp: 96.8V; Voltage - Reverse Standoff (Typ): 60V
footprint DO214AB SMC
pins: 1, 2

## SMCJ64A
designator D?
TVS DIODE 64V 103V SMC; Manufacturer: Bourns Inc.; Current - Peak Pulse (10/1000µs): 14.6A; Power Line Protection: No; Power - Peak Pulse: 1500W (1.5kW); Type: Zener; Unidirectional Channels: 1; Voltage - Breakdown (Min): 71.1V; Part Number: SMCJ64A; Applications: General Purpose; ComponentLink1Description: Datasheet; ComponentLink1URL: https://www.bourns.com/docs/Product-Datasheets/SMCJ.pdf; ComponentLink2Description: DigiKey Link; ComponentLink2URL: http://digikey.com/product-detail/en/bourns-inc/SMCJ64A/SMCJ64ABCT-ND/2254409; LastUpdated: 9/2/2020 1:20:00 AM; Lifecycle Status: Active; Minimum Order: 1; Mounting Type: Surface Mount; Operating Temperature: -55°C ~ 150°C (TJ); Package / Case: DO-214AB, SMC; Packaging: TapeAndReel; PartId: 6414; Part Status: Active; Price: 0.20; Series: SMCJ; Supplier 1: DigiKey; Supplier Part Number 1: SMCJ64ABCT-ND; Supplier Device Package: SMC (DO-214AB); Voltage - Clamping (Max) @ Ipp: 103V; Voltage - Reverse Standoff (Typ): 64V
footprint DO214AB SMC
pins: 1, 2

## SMCJ64A-13-F
designator D?
TVS DIODE 64V 103V SMC; Manufacturer: Diodes Incorporated; Current - Peak Pulse (10/1000µs): 14.6A; Power Line Protection: No; Power - Peak Pulse: 1500W (1.5kW); Type: Zener; Unidirectional Channels: 1; Voltage - Breakdown (Min): 71.1V; Part Number: SMCJ64A-13-F; Applications: General Purpose; ComponentLink1Description: Datasheet; ComponentLink1URL: https://www.diodes.com/assets/Datasheets/ds19003.pdf; ComponentLink2Description: DigiKey Link; ComponentLink2URL: http://digikey.com/product-detail/en/diodes-incorporated/SMCJ64A-13-F/SMCJ64A-FDICT-ND/725003; LastUpdated: 9/2/2020 1:20:00 AM; Lifecycle Status: Active; Minimum Order: 1; Mounting Type: Surface Mount; Operating Temperature: -55°C ~ 150°C (TJ); Package / Case: DO-214AB, SMC; Packaging: TapeAndReel; PartId: 6455; Part Status: Active; Price: 0.55; Series: -; Supplier 1: DigiKey; Supplier Part Number 1: SMCJ64A-FDICT-ND; Supplier Device Package: SMC; Voltage - Clamping (Max) @ Ipp: 103V; Voltage - Reverse Standoff (Typ): 64V
footprint DO214AB SMC
pins: 1, 2

## SMCJ64A-E3/9AT
designator D?
TVS DIODE 64V 103V DO214AB; Manufacturer: Vishay Semiconductor Diodes Division; Current - Peak Pulse (10/1000µs): 14.6A; Power Line Protection: No; Power - Peak Pulse: 1500W (1.5kW); Type: Zener; Unidirectional Channels: 1; Voltage - Breakdown (Min): 71.1V; Part Number: SMCJ64A-E3/9AT; Applications: General Purpose; ComponentLink1Description: Datasheet; ComponentLink1URL: http://www.vishay.com/docs/88394/smcj.pdf; ComponentLink2Description: DigiKey Link; ComponentLink2URL: http://digikey.com/product-detail/en/vishay-semiconductor-diodes-division/SMCJ64A-E3-9AT/SMCJ64A-E3-9ATGICT-ND/9601152; LastUpdated: 9/2/2020 1:20:02 AM; Lifecycle Status: Active; Minimum Order: 1; Mounting Type: Surface Mount; Operating Temperature: -55°C ~ 150°C (TJ); Package / Case: DO-214AB, SMC; Packaging: TapeAndReel; PartId: 6592; Part Status: Active; Price: 0.19; Series: TransZorb®; Supplier 1: DigiKey; Supplier Part Number 1: SMCJ64A-E3/9ATGICT-ND; Supplier Device Package: DO-214AB (SMCJ); Voltage - Clamping (Max) @ Ipp: 103V; Voltage - Reverse Standoff (Typ): 64V
footprint DO214AB SMC
pins: 1, 2

## SMCJ64A-E3/57T
designator D?
TVS DIODE 64V 103V DO214AB; Manufacturer: Vishay Semiconductor Diodes Division; Current - Peak Pulse (10/1000µs): 14.6A; Power Line Protection: No; Power - Peak Pulse: 1500W (1.5kW); Type: Zener; Unidirectional Channels: 1; Voltage - Breakdown (Min): 71.1V; Part Number: SMCJ64A-E3/57T; Applications: General Purpose; ComponentLink1Description: Datasheet; ComponentLink1URL: http://www.vishay.com/docs/88394/smcj.pdf; ComponentLink2Description: DigiKey Link; ComponentLink2URL: http://digikey.com/product-detail/en/vishay-semiconductor-diodes-division/SMCJ64A-E3-57T/SMCJ64A-E3-57TGICT-ND/3306594; LastUpdated: 9/2/2020 1:20:08 AM; Lifecycle Status: Active; Minimum Order: 1; Mounting Type: Surface Mount; Operating Temperature: -55°C ~ 150°C (TJ); Package / Case: DO-214AB, SMC; Packaging: TapeAndReel; PartId: 7250; Part Status: Active; Price: 0.25; Series: TransZorb®; Supplier 1: DigiKey; Supplier Part Number 1: SMCJ64A-E3/57TGICT-ND; Supplier Device Package: DO-214AB (SMCJ); Voltage - Clamping (Max) @ Ipp: 103V; Voltage - Reverse Standoff (Typ): 64V
footprint DO214AB SMC
pins: 1, 2

## SMCJ64A-TP
designator D?
TVS DIODE 64V 103V DO214AB; Manufacturer: Micro Commercial Co; Current - Peak Pulse (10/1000µs): 14.6A; Power Line Protection: No; Power - Peak Pulse: 1500W (1.5kW); Type: Zener; Unidirectional Channels: 1; Voltage - Breakdown (Min): 71.1V; Part Number: SMCJ64A-TP; Applications: General Purpose; ComponentLink1Description: Datasheet; ComponentLink1URL: https://www.mccsemi.com/pdf/Products/SMCJ5.0~SMCJ440CA(DO-214AB).pdf; ComponentLink2Description: DigiKey Link; ComponentLink2URL: http://digikey.com/product-detail/en/micro-commercial-co/SMCJ64A-TP/SMCJ64A-TPMSCT-ND/1200787; LastUpdated: 9/2/2020 1:19:59 AM; Lifecycle Status: Active; Minimum Order: 1; Mounting Type: Surface Mount; Operating Temperature: -55°C ~ 175°C (TJ); Package / Case: DO-214AB, SMC; Packaging: TapeAndReel; PartId: 6313; Part Status: Active; Price: 0.20; Series: -; Supplier 1: DigiKey; Supplier Part Number 1: SMCJ64A-TPMSCT-ND; Supplier Device Package: DO-214AB (SMC); Voltage - Clamping (Max) @ Ipp: 103V; Voltage - Reverse Standoff (Typ): 64V
footprint DO214AB SMC
pins: 1, 2

## SMCJ64CA
designator D?
TVS DIODE 64V 103V SMC; Manufacturer: Taiwan Semiconductor Corporation; Bidirectional Channels: 1; Current - Peak Pulse (10/1000µs): 14.6A; Power Line Protection: No; Power - Peak Pulse: 1500W (1.5kW); Type: Zener; Voltage - Breakdown (Min): 71.1V; Part Number: SMCJ64CA; Applications: General Purpose; ComponentLink1Description: Datasheet; ComponentLink1URL: https://www.taiwansemi.com/products/datasheet/SMCJ5V0CA_F%20SERIES_A1806.pdf; ComponentLink2Description: DigiKey Link; ComponentLink2URL: http://digikey.com/product-detail/en/taiwan-semiconductor-corporation/SMCJ64CA/SMCJ64CAFSCT-ND/3042748; LastUpdated: 9/2/2020 1:28:04 AM; Lifecycle Status: Active; Minimum Order: 1; Mounting Type: Surface Mount; Package / Case: DO-214AB, SMC; Packaging: TapeAndReel; PartId: 8226; Part Status: Active; Price: 0.28; Series: -; Supplier 1: DigiKey; Supplier Part Number 1: SMCJ64CAFSCT-ND; Supplier Device Package: SMC (DO-214AB); Voltage - Clamping (Max) @ Ipp: 103V; Voltage - Reverse Standoff (Typ): 64V
footprint DO214AB SMC
pins: 1, 2

## SMCJ64CA-13-F
designator D?
TVS DIODE 64V 103V SMC; Manufacturer: Diodes Incorporated; Bidirectional Channels: 1; Current - Peak Pulse (10/1000µs): 14.6A; Power Line Protection: No; Power - Peak Pulse: 1500W (1.5kW); Type: Zener; Voltage - Breakdown (Min): 71.1V; Part Number: SMCJ64CA-13-F; Applications: General Purpose; ComponentLink1Description: Datasheet; ComponentLink1URL: https://www.diodes.com/assets/Datasheets/ds19003.pdf; ComponentLink2Description: DigiKey Link; ComponentLink2URL: http://digikey.com/product-detail/en/diodes-incorporated/SMCJ64CA-13-F/SMCJ64CA-FDICT-ND/816137; LastUpdated: 9/2/2020 1:28:09 AM; Lifecycle Status: Active; Minimum Order: 1; Mounting Type: Surface Mount; Operating Temperature: -55°C ~ 150°C (TJ); Package / Case: DO-214AB, SMC; Packaging: TapeAndReel; PartId: 8761; Part Status: Active; Price: 0.30; Series: -; Supplier 1: DigiKey; Supplier Part Number 1: SMCJ64CA-FDICT-ND; Supplier Device Package: SMC; Voltage - Clamping (Max) @ Ipp: 103V; Voltage - Reverse Standoff (Typ): 64V
footprint DO214AB SMC
pins: 1, 2

## SMCJ64CA-E3/57T
designator D?
TVS DIODE 64V 103V DO214AB; Manufacturer: Vishay Semiconductor Diodes Division; Bidirectional Channels: 1; Current - Peak Pulse (10/1000µs): 14.6A; Power Line Protection: No; Power - Peak Pulse: 1500W (1.5kW); Type: Zener; Voltage - Breakdown (Min): 71.1V; Part Number: SMCJ64CA-E3/57T; Applications: General Purpose; ComponentLink1Description: Datasheet; ComponentLink1URL: http://www.vishay.com/docs/88394/smcj.pdf; ComponentLink2Description: DigiKey Link; ComponentLink2URL: http://digikey.com/product-detail/en/vishay-semiconductor-diodes-division/SMCJ64CA-E3-57T/SMCJ64CA-E3-57TGICT-ND/3306595; LastUpdated: 9/2/2020 1:28:08 AM; Lifecycle Status: Active; Minimum Order: 1; Mounting Type: Surface Mount; Operating Temperature: -55°C ~ 150°C (TJ); Package / Case: DO-214AB, SMC; Packaging: TapeAndReel; PartId: 8680; Part Status: Active; Price: 0.30; Series: TransZorb®; Supplier 1: DigiKey; Supplier Part Number 1: SMCJ64CA-E3/57TGICT-ND; Supplier Device Package: DO-214AB (SMCJ); Voltage - Clamping (Max) @ Ipp: 103V; Voltage - Reverse Standoff (Typ): 64V
footprint DO214AB SMC
pins: 1, 2

## SMCJ64CA-TP
designator D?
TVS DIODE 64V 103V DO214AB; Manufacturer: Micro Commercial Co; Bidirectional Channels: 1; Current - Peak Pulse (10/1000µs): 14.6A; Power Line Protection: No; Power - Peak Pulse: 1500W (1.5kW); Type: Zener; Voltage - Breakdown (Min): 71.1V; Part Number: SMCJ64CA-TP; Applications: General Purpose; ComponentLink1Description: Datasheet; ComponentLink1URL: https://www.mccsemi.com/pdf/Products/SMCJ5.0~SMCJ440CA(DO-214AB).pdf; ComponentLink2Description: DigiKey Link; ComponentLink2URL: http://digikey.com/product-detail/en/micro-commercial-co/SMCJ64CA-TP/SMCJ64CA-TPMSCT-ND/1200788; LastUpdated: 9/2/2020 1:28:01 AM; Lifecycle Status: Active; Minimum Order: 1; Mounting Type: Surface Mount; Operating Temperature: -55°C ~ 175°C (TJ); Package / Case: DO-214AB, SMC; Packaging: TapeAndReel; PartId: 7939; Part Status: Active; Price: 0.21; Series: -; Supplier 1: DigiKey; Supplier Part Number 1: SMCJ64CA-TPMSCT-ND; Supplier Device Package: DO-214AB (SMC); Voltage - Clamping (Max) @ Ipp: 103V; Voltage - Reverse Standoff (Typ): 64V
footprint DO214AB SMC
pins: 1, 2